# Altium schematic symbol library DEA202450BT-1213C1.SchLib: 1 symbol
Pins are listed as number, name and electrical type; pins without a type are passive.

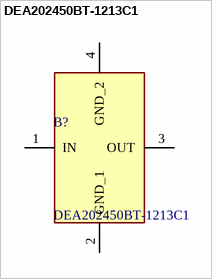
[diagram p0: symbol DEA202450BT-1213C1]

## DEA202450BT-1213C1
designator B?
Filters, Pass Band=2400 to 2500MHz, Zc=50se | 50se; Manufacturer_Name: TDK; Geometry.Height: 1.05mm; Mouser Part Number: 810-DEA22450BT1213C1; Mouser Price/Stock: https://www.mouser.co.uk/ProductDetail/TDK/DEA202450BT-1213C1?qs=7SC5D5ZbtDsv%2F4GWPXRDsA%3D%3D; Manufacturer_Part_Number: DEA202450BT-1213C1; Datasheet Link: https://product.tdk.com/system/files/dam/doc/product/rf/rf/filter/catalog/rf_bpf_dea202450bt-1213c1_en.pdf
footprint DEA202450BT1213C1
pins: 1 IN, 2 GND_1, 3 OUT, 4 GND_2